# EAGLE library part MICRO_SIM_HOLDER (library basicBoard)
Micro SIM holder
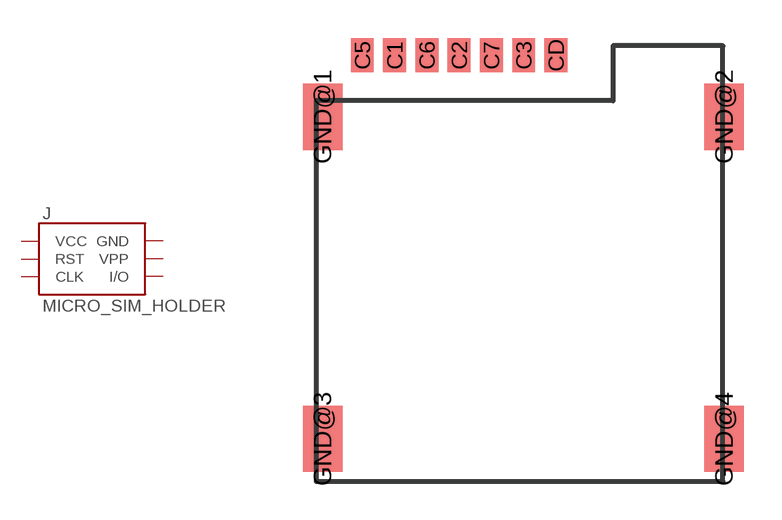
[diagram p8: symbol with the pads of MICRO_SIM_HOLDER; footprint MICRO_SIM_HOLDER]

Designator prefix J

## MICRO_SIM_HOLDERSIM (PROD_ID: CONN-08536)  [MICRO_SIM_HOLDER]
C1  VCC  pwr
C2  RST  in
C3  CLK  in
C5  GND  pwr
C6  VPP  in
C7  I/O
GND@1  GND  pwr
GND@2  GND  pwr
GND@3  GND  pwr
GND@4  GND  pwr

## Footprint MICRO_SIM_HOLDER (pad centres in mm)
smd 0.9 x 1.35: C1 -4.79,10.045; C2 -2.25,10.045; C3 0.29,10.045; C5 -6.06,10.045; C6 -3.52,10.045; C7 -0.98,10.045; CD 1.56,10.045
smd 1.55 x 2.6: GND@1 -7.62,7.62; GND@2 8.18,7.62; GND@3 -7.62,-5.06; GND@4 8.18,-5.06